# EAGLE library part DFPLAYER (library buzzer)
Small low price MP3 module with an simplified output directly to the speaker.
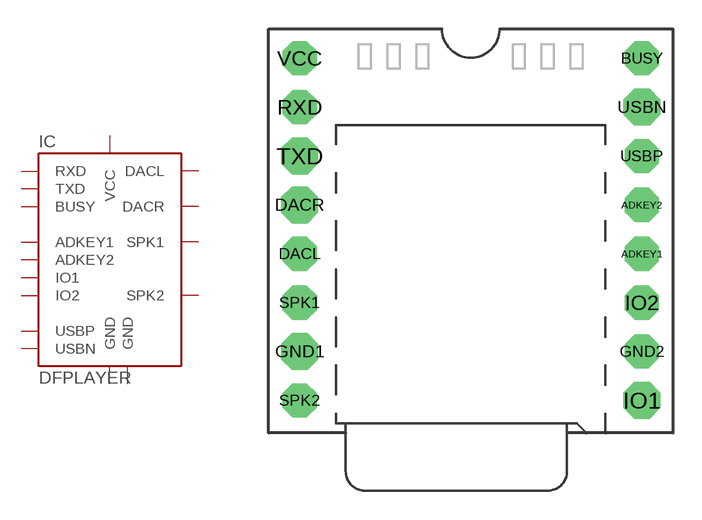
[diagram p0: symbol with the pads of DFPLAYER; footprint DFPLAYER]

Designator prefix IC

## DFPLAYER  [DFPLAYER]
ADKEY1  ADKEY1  pas
ADKEY2  ADKEY2  pas
BUSY  BUSY  out
DACL  DACL  pas
DACR  DACR  pas
GND1  GND  pwr
GND2  GND  pwr
IO1  IO1  pas
IO2  IO2  pas
RXD  RXD
SPK1  SPK1  pas
SPK2  SPK2  pas
TXD  TXD
USBN  USBN
USBP  USBP
VCC  VCC  pwr

## Footprint DFPLAYER (pad centres in mm)
DFplayer mini op view
drill 1.016 pad 1.778 octagon: ADKEY1 8.89,0; ADKEY2 8.89,2.54; BUSY 8.89,10.16; DACL -8.89,0; GND2 8.89,-5.08; IO2 8.89,-2.54; RXD -8.89,7.62; SPK1 -8.89,-2.54; SPK2 -8.89,-7.62; USBP 8.89,5.08; VCC -8.89,10.16
drill 1.016 pad 1.93 octagon: DACR -8.89,2.54; GND1 -8.89,-5.08; IO1 8.89,-7.62; TXD -8.89,5.08; USBN 8.89,7.62